# EAGLE library part S25FL128SDSMFI000 (library circuit_tree)
IC
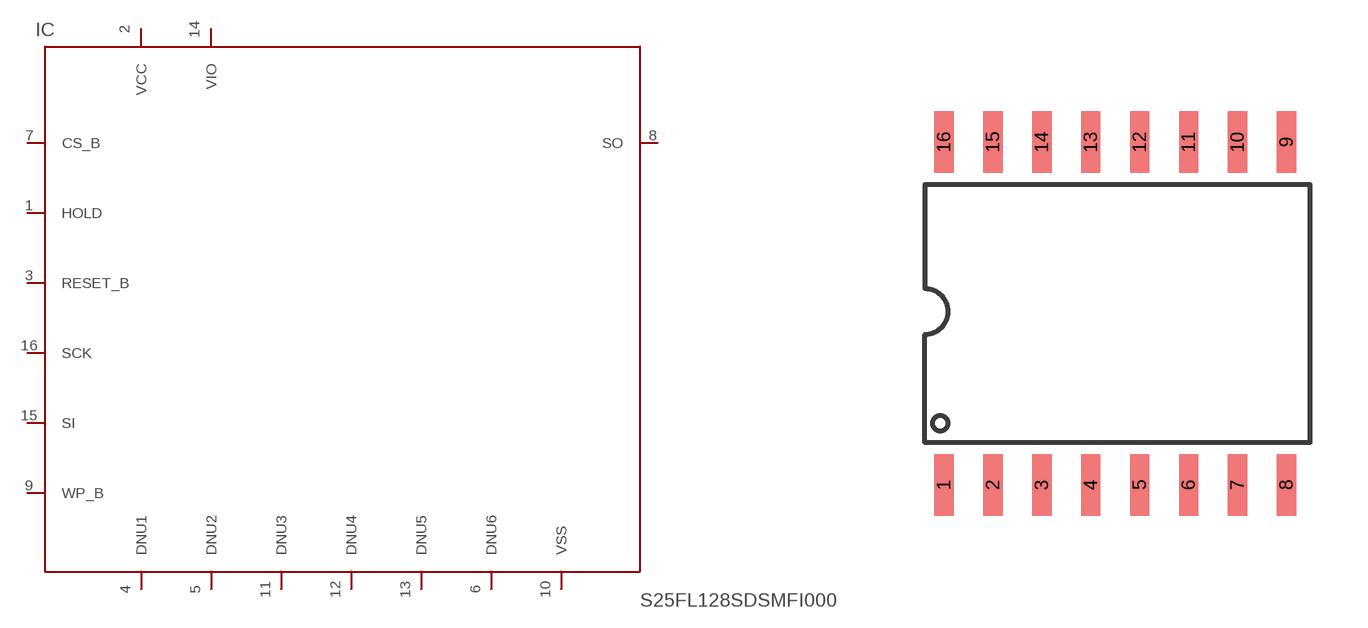
[diagram p7: symbol with the pads of S25FL128SDSMFI000; footprint S25FL128SDSMFI000]

Designator prefix IC

## S25FL128SDSMFI000  [S25FL128SDSMFI000]
1  HOLD  pas
2  VCC  pas
3  RESET_B  pas
4  DNU1  pas
5  DNU2  pas
6  DNU6  pas
7  CS_B  pas
8  SO  pas
9  WP_B  pas
10  VSS  pas
11  DNU3  pas
12  DNU4  pas
13  DNU5  pas
14  VIO  pas
15  SI  pas
16  SCK  pas

## Footprint S25FL128SDSMFI000 (pad centres in mm)
smd 0.5 x 1.6: 1 0,0; 2 1.27,0; 3 2.54,0; 4 3.81,0; 5 5.08,0; 6 6.35,0; 7 7.62,0; 8 8.89,0; 9 8.89,8.9; 10 7.62,8.9; 11 6.35,8.9; 12 5.08,8.9; 13 3.81,8.9; 14 2.54,8.9; 15 1.27,8.9; 16 0,8.9